# Altium schematic symbol library Schlib1.SchLib: 4 symbols
Pins are listed as number, name and electrical type; pins without a type are passive.

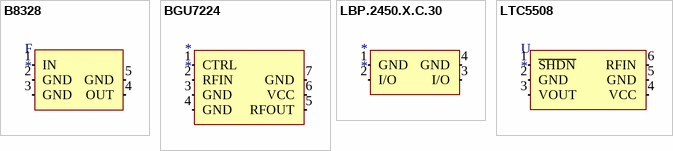
[diagram p0: symbols B8328 to LTC5508]

## B8328
designator F
pins: 1 IN (io), 2 GND (io), 3 GND (io), 4 OUT (io), 5 GND (io)

## BGU7224
designator *
pins: 1 CTRL (io), 2 RFIN (io), 3 GND (io), 4 GND (io), 5 RFOUT (io), 6 VCC (io), 7 GND (io)

## LBP.2450.X.C.30
designator *
pins: 1 GND (io), 2 I/O (io), 3 I/O (io), 4 GND (io)

## LTC5508
designator U
pins: 1 ~{SHDN} (io), 2 GND (io), 3 VOUT (io), 4 VCC (io), 5 GND (io), 6 RFIN (io)